# Altium schematic symbol library SMD Capacitors 0805.SchLib: 10 symbols
Pins are listed as number, name and electrical type; pins without a type are passive.

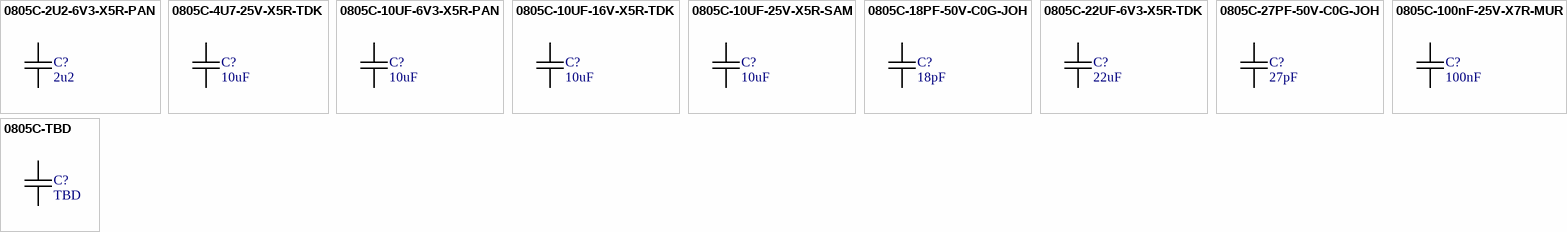
[diagram p0: symbols 0805C-2U2-6V3-X5R-PAN to 0805C-TBD]

## 0805C-2U2-6V3-X5R-PAN
designator C?, comment 2u2
CAPACITOR 0805 CERAMIC; Manufacturer Part Number: ECJ-1VB0J225K; Manufacturer: Panasonic - ECG; Description: CAP 2.2UF 6.3V CERAMIC X5R 0603; Reel: C7; Supplier 1: Digi-Key; Supplier Part Number 1: PCC2273TR-ND
footprint 0805C-GENERIC (CAPACITOR 0805)
pins: 1, 2

## 0805C-4U7-25V-X5R-TDK
designator C?, comment 10uF
CAPACITOR 0805 CERAMIC; Manufacturer: TDK Corporation; Manufacturer Part Number: C2012X5R1E475K; Tolerance: ±10%; Voltage - Rated: 25V; Temperature Coefficient: X5R; Capacitance: 4.7µF; Description: CAP CER 4.7UF 25V X5R 0805; REEL: C102; Supplier 1: Digi-Key; Supplier Part Number 1: 445-4116-1-ND; Packaging: Cut Tape (CT); Operating Temperature: -55°C ~ 85°C; Supplier: Digi-Key; Thickness: 1.25mm; RoHS: RoHS Compliant; Features: General Purpose; Mounting Type: Surface Mount, MLCC; Package / Case: 0805 (2012 Metric); Lead Spacing: -; Category: Capacitors; Supplier Part Number: 445-4116-1-ND
footprint 0805C-GENERIC (CAPACITOR 0805)
pins: 1, 2

## 0805C-10UF-6V3-X5R-PAN
designator C?, comment 10uF
CAPACITOR 0805 CERAMIC; Manufacturer: Panasonic - ECG; Manufacturer Part Number: ECJ-2FB0J106M; Reel: C1; Capacitance: 10µF; Voltage - Rated: 6.3V; Temperature Coefficient: X5R; Tolerance: ±20%; Description: CAP 10UF 6.3V CERAMIC X5R 0805; Supplier 1: Digi-Key; Supplier Part Number 1: PCC2225TR-ND; Supplier: Digi-Key; Operating Temperature: -55°C ~ 85°C; Mounting Type: Surface Mount, MLCC; Lead Spacing: -; RoHS: RoHS Compliant; Packaging: Tape & Reel (TR); Thickness: 1.25mm; Package / Case: 0805 (2012 metric); Features: General Purpose; Category: Capacitors; Supplier Part Number: PCC2225TR-ND
footprint 0805C-GENERIC (CAPACITOR 0805)
pins: 1, 2

## 0805C-10UF-16V-X5R-TDK
designator C?, comment 10uF
CAPACITOR 0805 CERAMIC; Manufacturer Part Number: C2012X5R1C106M; Manufacturer: TDK Corporation; REEL: C63; Description: CAP CER 10UF 16V X5R 0805; Supplier 1: Digi-Key; Supplier Part Number 1: 445-4115-2-ND
footprint 0805C-GENERIC (CAPACITOR 0805)
pins: 1, 2

## 0805C-10UF-25V-X5R-SAM
designator C?, comment 10uF
CAPACITOR 0805 CERAMIC; Manufacturer 1: Samsung; Manufacturer Part Number 1: CL21A106KACLRNC; Reel: C19; Supplier Part Number 1: CL21A106KACLRNC; Supplierr 1: Samsung
footprint 0805C-GENERIC (CAPACITOR 0805)
pins: 1, 2

## 0805C-18PF-50V-C0G-JOH
designator C?, comment 18pF
CAPACITOR 0805 CERAMIC; Supplier 1: Digi-Key; Supplier Part Number 1: 709-1171-2-ND
footprint 0805C-TBD (CAPACITOR 0805)
pins: 1, 2

## 0805C-22UF-6V3-X5R-TDK
designator C?, comment 22uF
CAPACITOR 0805 CERAMIC; Manufacturer: TDK Corporation; Manufacturer Part Number: C2012X5R0J226M; Tolerance: ±20%; Capacitance: 22µF; Description: CAP CER 22UF 6.3V X5R 20% 0805; Temperature Coefficient: X5R; Voltage - Rated: 6.3V; Supplier 1: Digi-Key; Supplier Part Number 1: 445-1422-2-ND; Operating Temperature: -55°C ~ 85°C; Mounting Type: Surface Mount, MLCC; RoHS: RoHS Compliant; Packaging: Tape & Reel (TR); Features: General Purpose; Lead Spacing: -; Category: Capacitors; Thickness: 1.25mm; Package / Case: 0805 (2012 Metric); Supplier Part Number: 445-1422-2-ND; Supplier: Digi-Key
footprint 0805C-GENERIC (CAPACITOR 0805)
pins: 1, 2

## 0805C-27PF-50V-C0G-JOH
designator C?, comment 27pF
CAPACITOR 0805 CERAMIC; Supplier 1: Digi-Key; Supplier 2: Digi-Key; Supplier Part Number 2: 251R15S270FV4E-ND
footprint 0805C-TBD (CAPACITOR 0805)
pins: 1, 2

## 0805C-100nF-25V-X7R-MUR
designator C?, comment 100nF
CAPACITOR 0805 CERAMIC; Supplier 1: Digi-Key; Supplier Part Number 1: 490-1673-1-ND
footprint 0805C-TBD (CAPACITOR 0805)
pins: 1, 2

## 0805C-TBD
designator C?, comment TBD
CAPACITOR 0805 CERAMIC VALUE TO BE DETERMINED
footprint 0805C-TBD (CAPACITOR 0805)
pins: 1, 2